# EAGLE library part OLED-128*64(27P-0.6-26.7X19.26MM) (library Seeed-OPL-Display)
308020000
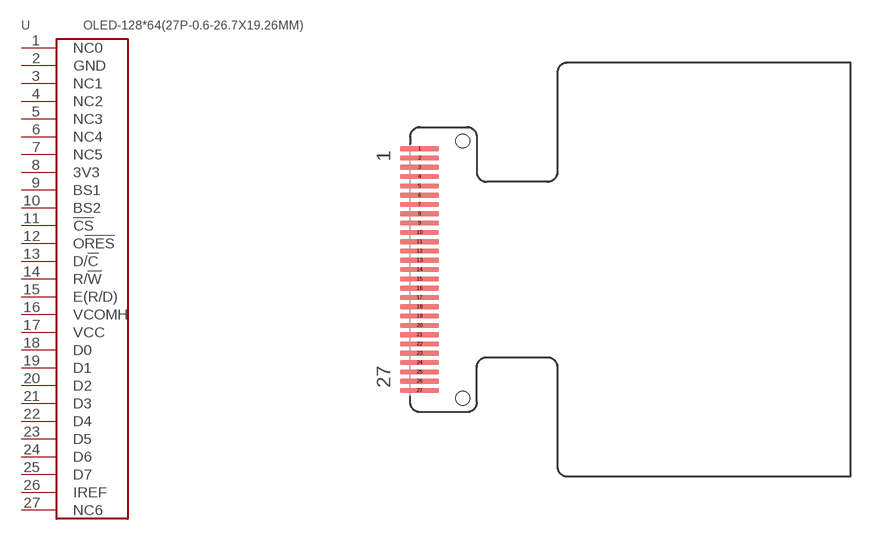
[diagram p0: symbol with the pads of OLED27P-0.6; footprint OLED27P-0.6]

Designator prefix U

## OLED-12864(27P-0.6-26.7X19.26MM) (MPN: LY190-128064; VALUE: LY190-128064)  [OLED27P-0.6]
1  NC0
2  GND
3  NC1
4  NC2
5  NC3
6  NC4
7  NC5
8  3V3
9  BS1
10  BS2
11  !CS
12  O!RES
13  D/!C
14  R/!W
15  E(R/D)
16  VCOMH
17  VCC
18  D0
19  D1
20  D2
21  D3
22  D4
23  D5
24  D6
25  D7
26  IREF
27  NC6

## Footprint OLED27P-0.6 (pad centres in mm)
smd 2.5 x 0.35: 1 0.6,7.8; 2 0.6,7.2; 3 0.6,6.6; 4 0.6,6; 5 0.6,5.4; 6 0.6,4.8; 7 0.6,4.2; 8 0.6,3.6; 9 0.6,3; 10 0.6,2.4; 11 0.6,1.8; 12 0.6,1.2; 13 0.6,0.6; 14 0.6,0; 15 0.6,-0.6; 16 0.6,-1.2; 17 0.6,-1.8; 18 0.6,-2.4; 19 0.6,-3; 20 0.6,-3.6; 21 0.6,-4.2; 22 0.6,-4.8; 23 0.6,-5.4; 24 0.6,-6; 25 0.6,-6.6; 26 0.6,-7.2; 27 0.6,-7.8
hole 0.889 at 3.4,8.3
hole 0.889 at 3.4,-8.3